# Altium footprint library PcbLab6.PcbLib: 3 footprints
Each footprint in its own frame and in the unit in brackets; x right, y up, seen from the top. Pads: shape width x height; smd on the part's side, far side on the other; paste and mask are expansions set on the pad; w line width, h text height; cw(c..) or ccw(c..) is an arc to the next point about the centre after c.
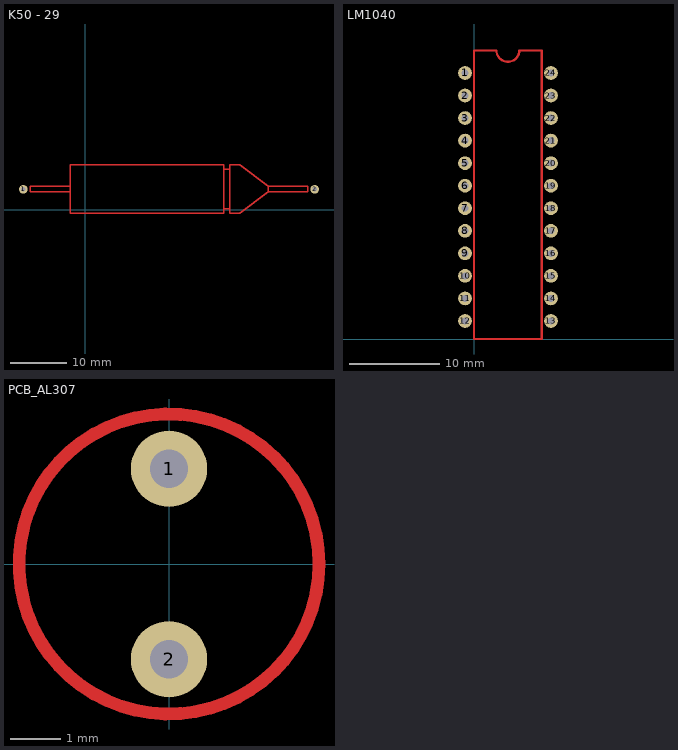
[diagram p0: the footprints below, top view; thin cyan lines are the x and y axes]

## K50 - 29 [mil]
pads (2):
  round 60 hole 30: 1(-430,140) 2(1590,140)
Top Layer:
  lines w10: -105,122.64 -380.59,122.64 -380.59,162.01 -105,162.01 ; -105,309.65 -105,-25 957.99,-25 ; -105,310 957.99,310 ; 960,-25 960,309.65 ; 960,5 1000,5 ; 960,279.65 999.65,279.65 ; 1267.68,122.64 1267.68,142.32 1267.68,162.01 ; 1267.68,122.64 1543.27,122.64 1543.27,162.01 1267.68,162.01 ; 1267.68,122.64 1070.83,-25 1000,-25 1000,309.65 1070.83,309.65 1267.68,162.01

## LM1040 [mil]
pads (24):
  round 60 hole 30: 1(-39.37,1161.42) 2(-39.37,1062.99) 3(-39.37,964.57) 4(-39.37,866.14) 5(-39.37,767.72) 6(-39.37,669.29) 7(-39.37,570.87) 8(-39.37,472.44) 9(-39.37,374.02) 10(-39.37,275.59) 11(-39.37,177.17) 12(-39.37,78.74) 13(335.63,78.74) 14(335.63,177.17) 15(335.63,275.59) 16(335.63,374.02) 17(335.63,472.44) 18(335.63,570.87) 19(335.63,669.29) 20(335.63,767.72) 21(335.63,866.14) 22(335.63,964.57) 23(335.63,1062.99) 24(335.63,1161.42)
Top Layer:
  lines w10: 0,0 295.28,0 295.28,1259.84 197.55,1259.84 cw(c147.64,1259.84) 97.73,1259.84 0,1259.84 0,0

## PCB_AL307 [mil]
pads (2):
  round 60 hole 30: 1(0,75) 2(0,-75)
Top Layer:
  circle w10: c0,0 r118.11